# EAGLE library part ZIF_1X9 (library 1)
ZIF Connectors, 9-pin
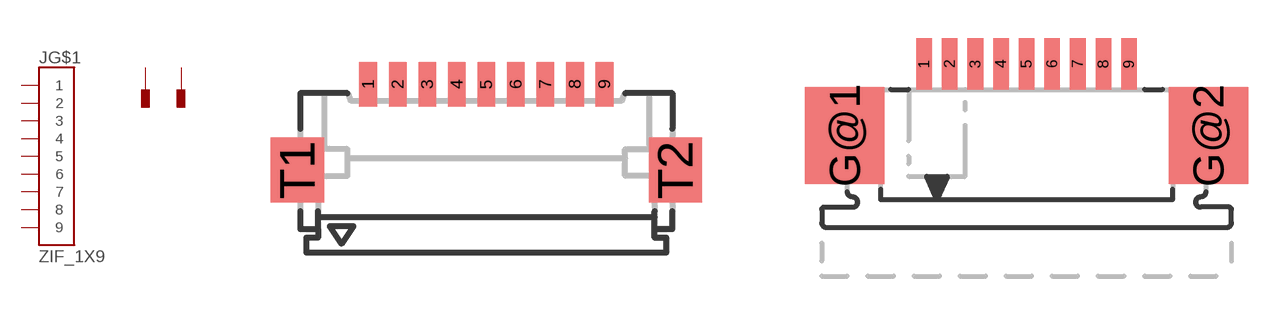
[diagram p22: symbol with the pads of FH12-9S-1SH; footprints FH12-9S-1SH, 84953-9]

Designator prefix J; gates G$1=HEADER_1X9 G$2=PAD G$3=PAD

## ZIF_1X9  [FH12-9S-1SH]
1  G$1:1
2  G$1:2
3  G$1:3
4  G$1:4
5  G$1:5
6  G$1:6
7  G$1:7
8  G$1:8
9  G$1:9
T1  G$2:1
T2  G$3:1

## ZIF_1X91  [84953-9]
1  G$1:1
2  G$1:2
3  G$1:3
4  G$1:4
5  G$1:5
6  G$1:6
7  G$1:7
8  G$1:8
9  G$1:9
G@1  G$2:1
G@2  G$3:1

## Footprint FH12-9S-1SH (pad centres in mm)
FH12-9S-1SH(**) 9-pin, 1mm Pitch, Bottom Contact ZIF connector e58605370.pdf <http://www.hirose.co.jp/cataloge_hp/e58605370.pdf>
smd 0.6 x 1.5: 1 -4,2.9; 2 -3,2.9; 3 -2,2.9; 4 -1,2.9; 5 0,2.9; 6 1,2.9; 7 2,2.9; 8 3,2.9; 9 4,2.9
smd 1.8 x 2.2: T1 -6.4,0; T2 6.4,0

## Footprint 84953-9 (pad centres in mm)
TE# 84953-9 9-pin, 1mm Pitch, Top Contact ZIF connector Datasheet <http://www.te.com/commerce/DocumentDelivery/DDEController?Action=srchrtrv&DocNm=84953&DocType=Customer+Drawing&DocLang=English>
smd 0.61 x 2: 1 -4,3.7; 2 -3,3.7; 3 -2,3.7; 4 -1,3.7; 5 0,3.7; 6 1,3.7; 7 2,3.7; 8 3,3.7; 9 4,3.7
smd 3.1 x 3.8: G@1 -7.1,0.9; G@2 7.1,0.9